# Altium footprint library commutation.pcblib: 25 footprints (part 2 of 2)
Each footprint in its own frame and in the unit in brackets; x right, y up, seen from the top. Pads: shape width x height; smd on the part's side, far side on the other; paste and mask are expansions set on the pad; w line width, h text height; cw(c..) or ccw(c..) is an arc to the next point about the centre after c.
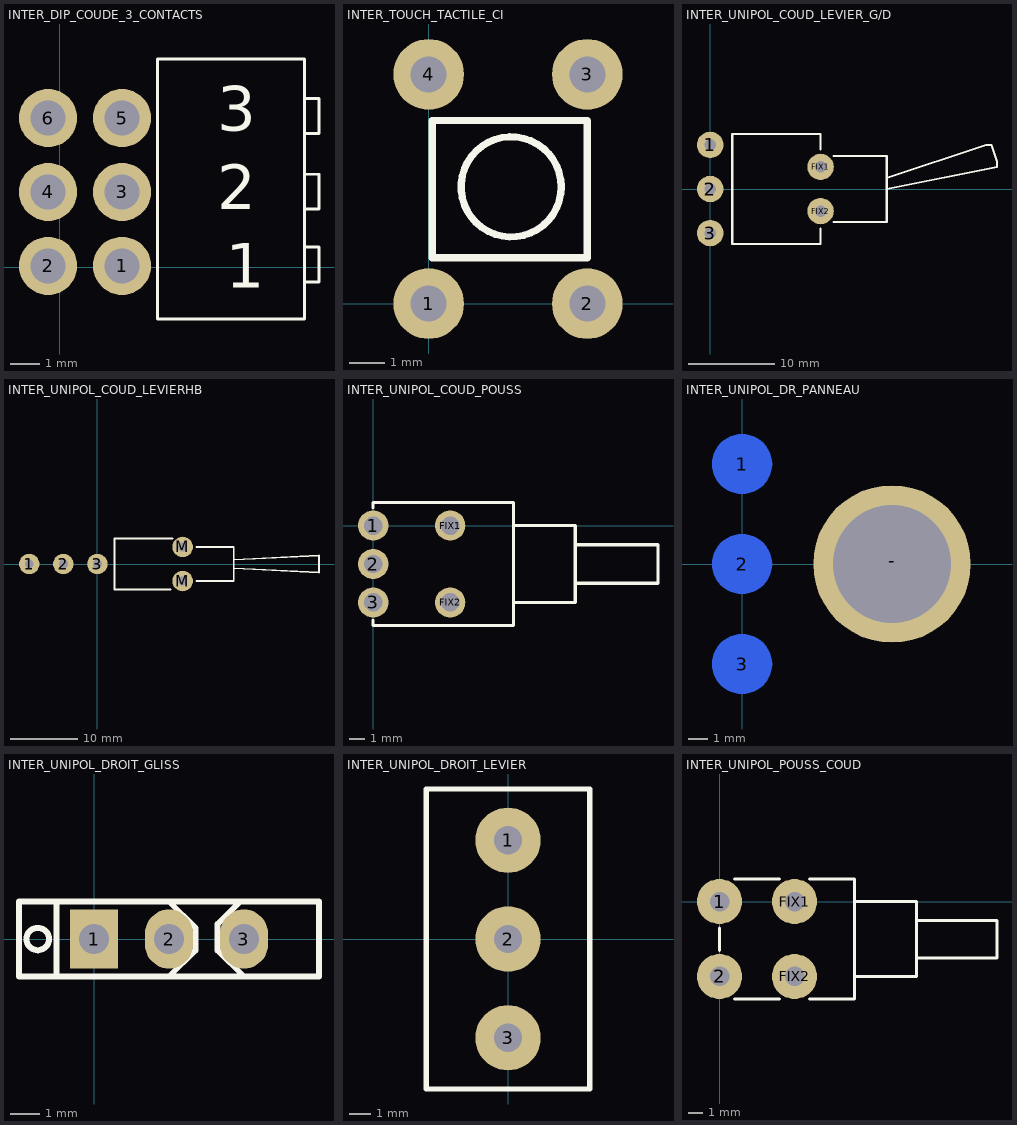
[diagram p1: the footprints below, top view; thin cyan lines are the x and y axes]

## INTER_DIP_COUDE_3_CONTACTS [mil] "Sealed Tiny Slide Switches; ES21MABE; DPDT; 3 Position; Pin Spacing=2.54mm"
height 251.18
pads (6):
  round 78.73 / inner round 60 / far side round 78.73 hole 47.23: 1(84,2) 2(-16,2) 3(84,102) 4(-16,102) 5(84,202) 6(-16,202)
Top Overlay:
  lines w3.93: 132,-70 132,282 230,282 330.71,282 330.71,-70 230,-70 132,-70
  lines w3.94: 330.71,-19.68 350.39,-19.68 350.39,27.56 330.71,27.56 ; 330.71,78.74 350.39,78.74 350.39,125.98 330.71,125.98 ; 330.71,181.1 350.39,181.1 350.39,228.35 330.71,228.35
  text "3" at 212.6,185.04 h60
  text "2" at 212.6,78.74 h60
  text "1" at 224.41,-27.56 h60
3D body: height 393.7, standoff -110.24, extent -19.68,-74.8 378.54,285.04

## INTER_TOUCH_TACTILE_CI [mil] "Switch; B3F; SPNO; 6x6mm; mounting to PCBs; Pin Spacing=4.5mm/6.5mm"
height 354.33
pads (4):
  round 79 hole 40: 1(0,0) 2(177.17,0) 3(177.17,255.91) 4(0,255.91)
Top Overlay:
  circle w8: c92.13,130.33 r55.9
  lines w8: 3.93,51.13 3.93,204.53 177,204.53 177,51.13 3.93,51.13
3D body: height 196.85, standoff -137.8, extent -37.95,-30 217.95,295.49

## INTER_UNIPOL_COUD_LEVIER_G/D [mil] "INTERRUPTEUR UNIPOLAIRE COUDE A LEVIER GAUCHE/DROITE ; ESPACEMENTS BROCHES : 5.08mm"
height 236.22
pads (5):
  round 120 hole 52: 1(0,200) 2(0,0) 3(0,-200) FIX1(500,100) FIX2(500,-100)
Top Overlay:
  lines w10: 500,-180 500,-250 100,-250 100,250 500,250 500,180 ; 560,-150 800,-150 800,150 560,150 ; 800,0 800,50 1250,200 1275,200 1300,125 1300,100 800,0
3D body: height 314.79, standoff -167.02, extent -30,-256 1261.68,256

## INTER_UNIPOL_COUD_LEVIERHB [mil] "Switch; SPDT; Right Angle; LeverHigh/Low;Pin Spacing=5.08mm"
height 334.65
pads (5):
  round 120 hole 52: 1(-400,0) 2(-200,0) 3(0,0) M(500,-100) M(500,100)
Top Overlay:
  lines w10: 430,-150 100,-150 100,150 440,150 ; 580,-100 800,-100 800,100 580,100 ; 800,-25 1300,-50 1300,50 800,25 800,-25

## INTER_UNIPOL_COUD_POUSS [mil] "Switch; SPDT; Right Angle; Pushbutton; Pin Spacing=2.54mm"
height 472.44
pads (5):
  round 79 hole 48: 1(0,0) 2(0,-100) 3(0,-200) FIX1(200,0) FIX2(200,-200)
Top Overlay:
  lines w8: 0,-245 0,-260 365,-260 365,60 0,60 0,45 ; 365,-200 525,-200 525,0 365,0 ; 525,-150 740,-150 740,-50 525,-50

## INTER_UNIPOL_DR_PANNEAU [mil] "Switch; SPDT; Pin Spacing=5.08mm"
height 1299.21
pads (4):
  round 120 smd far side: 1(0,200) 2(0,0) 3(0,-200)
  round 314.96 hole 236.22: -(300,0)
Bottom Overlay:
  lines w10: -90,-275 510,-275 510,275 -90,275 -90,-275

## INTER_UNIPOL_DROIT_GLISS [mil] "Switch; Slide; SPDT; Pin Spacing=2.54mm"
height 232.28
pads (3):
  rect 64x79 / inner oval 64x79 / far side oval 64x79 hole 40: 1(0,0)
  oval 64x79 hole 40: 2(100,0) 3(200,0)
Top Overlay:
  lines w8: -50,-50 100,-50 ; -50,-50 -50,50 ; -50,-50 -100,-50 -100,50 -50,50 ; -50,50 94,50 100,50 ; 100,-50 200,-50 ; 100,-50 135,-15 135,15 100,50 ; 100,50 104.9,50 195,50 ; 195,50 165,20 165,-15 200,-50 ; 195,50 205,50 300,50 300,-50 200,-50 ; -90,0 cw(c-75,0) -75,15 cw(c-75,0) -60,0 cw(c-75,0) -75,-15 cw(c-75,0) -90,0
3D body: height 291.34, standoff -216.54, extent -96.85,-50 296.85,48.43

## INTER_UNIPOL_DROIT_LEVIER [mil] "INTERRUPTEUR UNIPOLAIRE DROIT A LEVIER ON/ON ; ESPACEMENTS BROCHES : 5.08mm"
height 1299.21
pads (3):
  round 120 hole 52: 1(0,181.1) 2(0,0) 3(0,-181.1)
Top Overlay:
  lines w10: -150,-275 150,-275 150,275 -150,275 -150,-275
3D body: height 1096.73, standoff -125, extent -233.47,-250 233.47,250

## INTER_UNIPOL_POUSS_COUD [mil] "Switch; SPST; Pushbutton; Right Angle; Pin Spacing=5.08mm"
height 255.91
pads (4):
  round 120 hole 52: 1(0,0) 2(0,-200) FIX1(200,0) FIX2(200,-200)
Top Overlay:
  lines w8: 0,-130 0,-70 ; 40,-260 160,-260 ; 40,60 160,60 ; 240,-260 360,-260 360,60 240,60 ; 365,-200 525,-200 525,0 365,0 ; 525,-150 740,-150 740,-50 525,-50